# Altium schematic symbol library powerhub.SchLib: 5 symbols
Pins are listed as number, name and electrical type; pins without a type are passive.

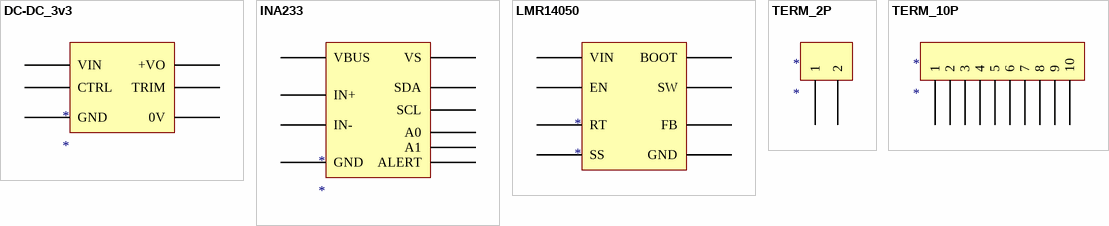
[diagram p0: symbols DC-DC_3v3 to TERM_10P]

## DC-DC_3v3
designator *
pins: 1 CTRL, 2 GND, 3 VIN, 4 +VO, 5 TRIM, 6 0V

## INA233
designator *
High-Side or Low-Side Measurement, Bidirectional Current and Power Monitor
pins: 1 A1, 2 A0, 3 ALERT, 4 SDA, 5 SCL, 6 VS, 7 GND, 8 VBUS, 9 IN-, 10 IN+

## LMR14050
designator *
footprint HSOIC-8
pins: 1 BOOT, 2 VIN, 3 EN, 4 RT, 5 FB, 6 SS, 7 GND, 8 SW

## TERM_2P
designator *
pins: 1, 2

## TERM_10P
designator *
pins: 1, 2, 3, 4, 5, 6, 7, 8, 9, 10